# Altium schematic symbol library BATTERY.SchLib: 1 symbol
Pins are listed as number, name and electrical type; pins without a type are passive.

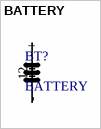
[diagram p0: symbol BATTERY]

## BATTERY
designator BT?
Battery symbol
pins: 1 + (power), 2 - (power)